# EAGLE library part WS2811 (library WS2811)
NEOPIXEL Led driver chip.
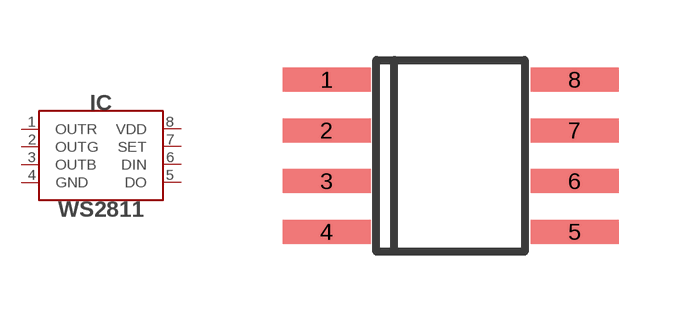
[diagram p0: symbol with the pads of SOIC8; footprint SOIC8]

Designator prefix IC

## WS2811 (MANF: WORLDSEMI; MANF#: WS2811)  [SOIC8]
1  OUTR
2  OUTG
3  OUTB
4  GND
5  DO
6  DIN
7  SET
8  VDD

## Footprint SOIC8 (pad centres in mm)
Small Outline IC
smd 2.2 x 0.6: 1 -3.1,1.905; 2 -3.1,0.635; 3 -3.1,-0.635; 4 -3.1,-1.905; 5 3.1,-1.905; 6 3.1,-0.635; 7 3.1,0.635; 8 3.1,1.905